# EAGLE library part MCP2551 (library mcp2515_2551_2562)
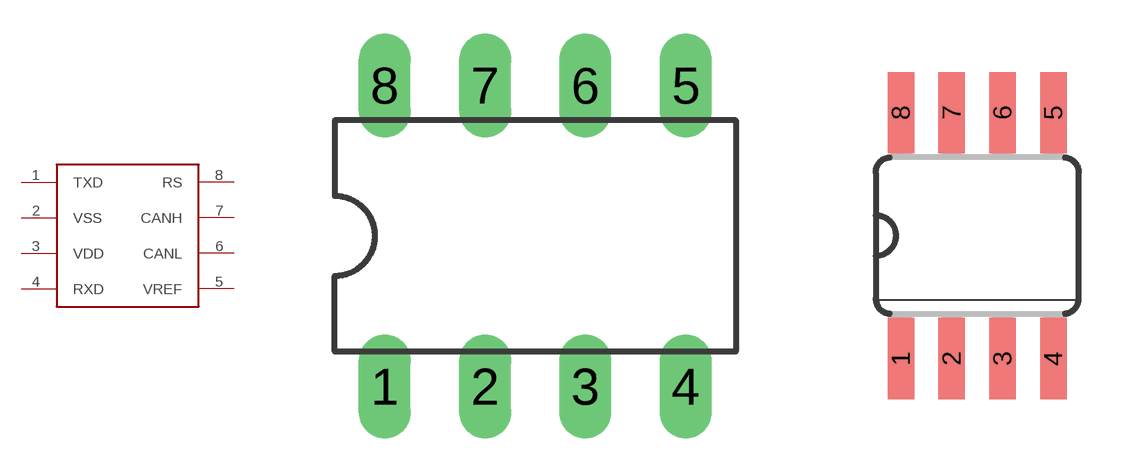
[diagram p1: symbol with the pads of DIL8; footprints DIL8, MPC2551SM]

Designator prefix -

## MCP2551-I/P  [DIL8]
1  TXD
2  VSS  pwr
3  VDD  pwr
4  RXD
5  VREF
6  CANL
7  CANH
8  RS

## MCP2551-SM  [MPC2551SM]
Pads as for DIL8

## Footprint DIL8 (pad centres in mm)
drill 0.813 long: 1 -2.54,1.27; 2 0,1.27; 3 2.54,1.27; 4 5.08,1.27; 5 5.08,8.89; 6 2.54,8.89; 7 0,8.89; 8 -2.54,8.89

## Footprint MPC2551SM (pad centres in mm)
smd 0.66 x 2.032: 1 -1.905,2.007; 2 -0.635,2.007; 3 0.635,2.007; 4 1.905,2.007; 5 1.905,8.153; 6 0.635,8.153; 7 -0.635,8.153; 8 -1.905,8.153